# Altium schematic symbol library header_19_tp1_sct.SchLib: 1 symbol
Pins are listed as number, name and electrical type; pins without a type are passive.

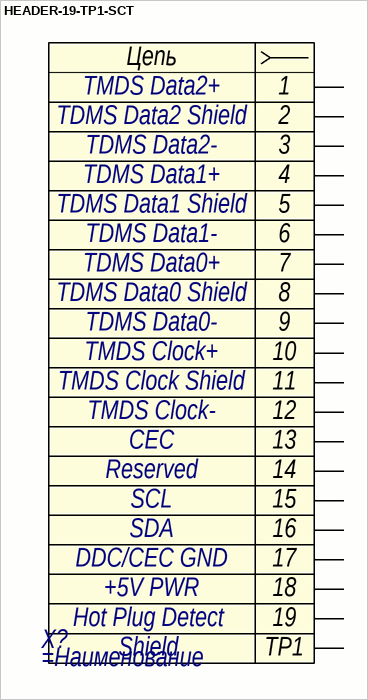
[diagram p0: symbol HEADER-19-TP1-SCT]

## HEADER-19-TP1-SCT
designator X?
=Описание; Contact_1: TMDS Data2+; Contact_2: TDMS Data2 Shield; Contact_3: TDMS Data2-; Contact_4: TDMS Data1+; Contact_5: TDMS Data1 Shield; Contact_6: TDMS Data1-; Contact_7: TDMS Data0+; Contact_8: TDMS Data0 Shield; Contact_9: TDMS Data0-; Contact_10: TMDS Clock+; Contact_11: TMDS Clock Shield; Contact_12: TMDS Clock-; Contact_13: CEC; Contact_14: Reserved; Contact_15: SCL; Contact_16: SDA; Contact_17: DDC/CEC GND; Contact_18: +5V PWR; Contact_19: Hot Plug Detect; TP1: Shield
pins: 1, 2, 3, 4, 5, 6, 7, 8, 9, 10, 11, 12, 13, 14, 15, 16, 17, 18, 19, TP1
text: Цепь